# Altium footprint library Components - 18.08.25 - 15.06.PcbLib: 1 footprints
Each footprint in its own frame and in the unit in brackets; x right, y up, seen from the top. Pads: shape width x height; smd on the part's side, far side on the other; paste and mask are expansions set on the pad; w line width, h text height; cw(c..) or ccw(c..) is an arc to the next point about the centre after c.
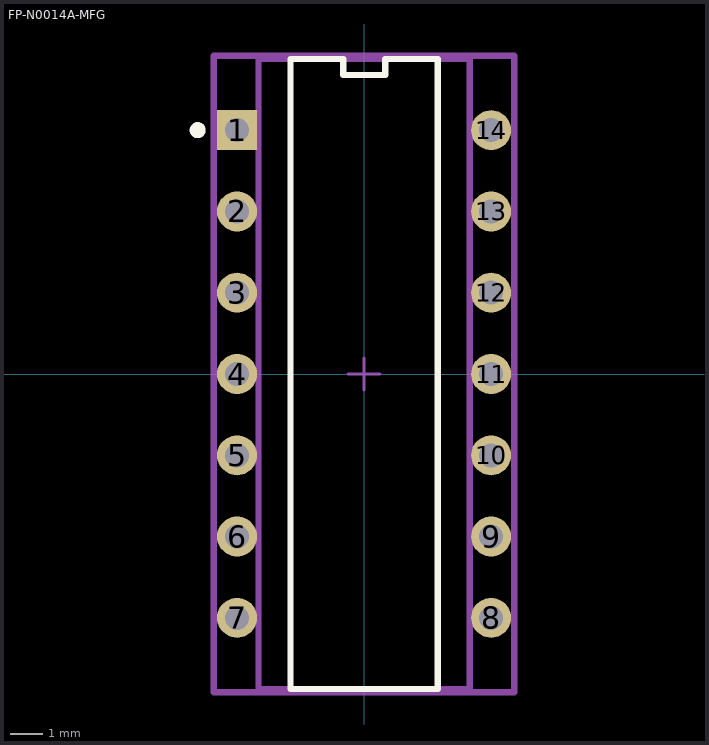
[diagram p0: the footprint, top view; thin cyan lines are the x and y axes]

## FP-N0014A-MFG [mm]
pads (14):
  rect 1.25x1.25 hole 0.75 paste-2539.97 mask+0: 1(-3.97,7.62)
  round 1.25 hole 0.75 paste-2539.97 mask+0: 2(-3.97,5.08) 3(-3.97,2.54) 4(-3.97,0) 5(-3.97,-2.54) 6(-3.97,-5.08) 7(-3.97,-7.62) 8(3.97,-7.62) 9(3.97,-5.08) 10(3.97,-2.54) 11(3.97,0) 12(3.97,2.54) 13(3.97,5.08) 14(3.97,7.62)
Top Overlay:
  circle w0.25: c-5.2,7.62 r0.125
  lines w0.2: -2.3,-9.845 2.3,-9.845 2.3,9.845 0.657,9.845 0.657,9.345 -0.657,9.345 -0.657,9.845 -2.3,9.845 -2.3,-9.845
Top Assembly:
  lines w0.2: -4.695,-9.945 -4.695,9.945 4.695,9.945 4.695,-9.945 -4.695,-9.945
  text ".Designator" at 0,0.188 h1
Top 3D Body:
  lines w0.2: -3.3,-9.845 -3.3,9.845 3.3,9.845 3.3,-9.845 -3.3,-9.845
Top Courtyard:
  lines w0.2: -4.695,-9.945 -4.695,9.945 4.695,9.945 4.695,-9.945 -4.695,-9.945
Top Component Center:
  lines w0.1: -0.5,0 0.5,0 ; 0,-0.5 0,0.5
3D body "IC_Texas_Instruments_SN7406N_eec.STEP": height 0.25, standoff 0, extent -4.695,-9.945 4.695,9.945